# Altium footprint library RPSLib_Diodes.PcbLib: 12 footprints
Each footprint in its own frame and in the unit in brackets; x right, y up, seen from the top. Pads: shape width x height; smd on the part's side, far side on the other; paste and mask are expansions set on the pad; w line width, h text height; cw(c..) or ccw(c..) is an arc to the next point about the centre after c.
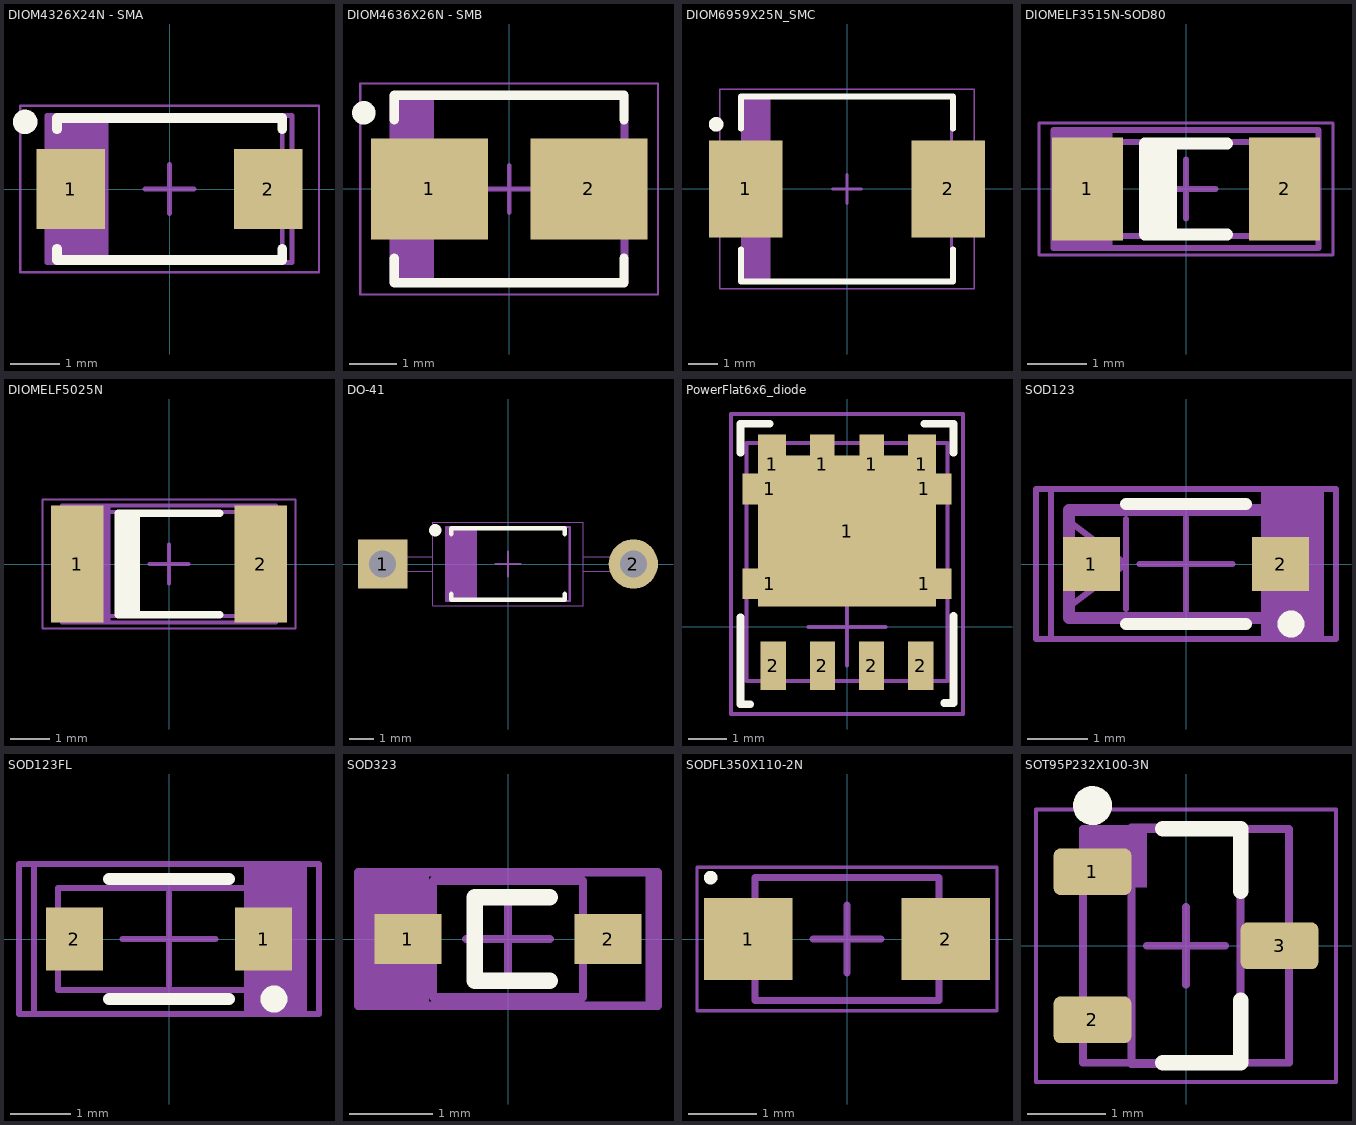
[diagram p0: the footprints below, top view; thin cyan lines are the x and y axes]

## DIOM4326X24N - SMA [mm] "Molded Diode, 2-Leads, Body 4,28x2,58mm, IPC Medium Density"
height 2.45
pads (2):
  rect 1.4x1.64 smd: 1(-2.015,0) 2(2.015,0)
Top Overlay:
  circle w0.25: c-2.95,1.37 r0.125
  lines w0.2: -2.3,-1.22 -2.3,-1.45 2.3,-1.45 2.3,-1.22 ; -2.3,1.22 -2.3,1.45 2.3,1.45 2.3,1.22
Mechanical 1:
  rectangle: -2.5,-1.5 -1.25,1.5
  lines w0.1: -2.5,-1.5 -2.5,1.5 2.5,1.5 2.5,-1.5 -2.5,-1.5
  text ".Designator" at -1.126,-0.113 h0.5
Mechanical 13:
  rectangle: -2.3,-1.45 -1.681,1.45
  lines w0.1: -2.3,-1.45 2.3,-1.45 2.3,1.45 -2.3,1.45 -2.3,-1.45
Mechanical 15:
  lines w0.05: -3.05,-1.7 3.05,-1.7 3.05,1.7 -3.05,1.7 -3.05,-1.7
  lines w0.1: -0.5,0 0.5,0 ; 0,-0.5 0,0.5
3D body "DIOM4326X24N - SMA.step": height 2.45, standoff 0, extent -2.52,-1.45 2.52,1.45

## DIOM4636X26N - SMB [mm] "Molded Diode, 2-Leads, Body 4,55x3,62mm, IPC Medium Density"
height 2.65
pads (2):
  rect 2.5x2.15 smd: 1(-1.7,0) 2(1.7,0)
Top Overlay:
  circle w0.25: c-3.1,1.625 r0.125
  lines w0.2: -2.45,-1.475 -2.45,-2 2.45,-2 2.45,-1.475 ; -2.45,1.475 -2.45,2 2.45,2 2.45,1.475
Mechanical 1:
  rectangle: -2.5,-2 -1.6,2
  lines w0.1: -2.5,-2 2.5,-2 2.5,2 -2.5,2 -2.5,-2
  text ".Designator" at -1.126,-0.113 h0.5
Mechanical 13:
  rectangle: -2.425,-1.97 -1.773,1.97
  lines w0.1: -2.425,-1.97 -2.425,1.97 2.425,1.97 2.425,-1.97 -2.425,-1.97
Mechanical 15:
  lines w0.05: -3.175,-2.25 -3.175,2.25 3.175,2.25 3.175,-2.25 -3.175,-2.25
  lines w0.1: -0.5,0 0.5,0 ; 0,-0.5 0,0.5
3D body "DIOM4636X26N-SMB.step": height 2.65, standoff 0, extent -2.645,-1.97 2.645,1.97

## DIOM6959X25N_SMC [mm] "Molded Diode, 2-Leads, Body 6,86x5,91mm, IPC Medium Density"
height 2.5
pads (2):
  rect 2.5x3.3 smd: 1(-3.45,0) 2(3.45,0)
Top Overlay:
  circle w0.25: c-4.45,2.2 r0.125
  lines w0.2: -3.6,-2.05 -3.6,-3.15 3.6,-3.15 3.6,-2.05 ; -3.6,2.05 -3.6,3.15 3.6,3.15 3.6,2.05
Mechanical 13:
  rectangle: -3.555,-3.11 -2.599,3.11
  lines w0.1: -3.555,-3.11 3.555,-3.11 3.555,3.11 -3.555,3.11 -3.555,-3.11
Mechanical 15:
  lines w0.05: -4.325,-3.4 4.325,-3.4 4.325,3.4 -4.325,3.4 -4.325,-3.4
  lines w0.1: -0.5,0 0.5,0 ; 0,-0.5 0,0.5
3D body "DIOM6959X25N_SMC.step": height 2.5, standoff 0, extent -3.775,-3.11 3.775,3.11

## DIOMELF3515N-SOD80 [mm] "MELF Diode, 2-Leads, Body 3,50x1,50mm, IPC Medium Density"
height 1.6
pads (2):
  rect 1.2x1.75 smd: 1(-1.675,0) 2(1.675,0)
Top Overlay:
  rectangle: -0.7,-0.775 -0.15,0.775
  lines w0.2: 0.7,-0.775 -0.7,-0.775 -0.7,0.775 0.7,0.775
Mechanical 1:
  rectangle: -2.25,-1 -1.25,1
  lines w0.1: -2.25,-1 2.25,-1 2.25,1 -2.25,1 -2.25,-1
  text ".Designator" at -1.126,-0.113 h0.5
Mechanical 13:
  lines w0.1: -1.85,-0.8 1.85,-0.8 1.85,0.8 -1.85,0.8 -1.85,-0.8
Mechanical 15:
  lines w0.05: -2.5,-1.125 2.5,-1.125 2.5,1.125 -2.5,1.125 -2.5,-1.125
  lines w0.1: -0.5,0 0.5,0 ; 0,-0.5 0,0.5
3D body "SOD-80 MiniMELF.stp": height 1.6, standoff 0, extent -1.85,-0.8 1.85,0.8

## DIOMELF5025N [mm]
pads (2):
  rect 1.35x3 smd: 1(-2.35,0) 2(2.35,0)
Top Overlay:
  rectangle: -1.3,-1.3 -0.75,1.3
  lines w0.2: 1.3,-1.3 -1.3,-1.3 -1.3,1.3 1.3,1.3
Mechanical 1:
  rectangle: -2.75,-1.5 -1.5,1.5
  lines w0.1: -2.75,-1.5 -2.75,1.5 2.75,1.5 2.75,-1.5 -2.75,-1.5
  text ".Designator" at -1.126,-0.113 h0.5
Top Component Outline:
  lines w0.05: -3.25,-1.65 3.25,-1.65 3.25,1.65 -3.25,1.65 -3.25,-1.65
  lines w0.1: -0.5,0 0.5,0 ; 0,-0.5 0,0.5
Mechanical 13:
  lines w0.1: -2.6,-1.335 2.6,-1.335 2.6,1.335 -2.6,1.335 -2.6,-1.335
3D body "DIOMELF5025N.step": height 2.54, standoff 0, extent -2.475,-1.261 2.475,1.261

## DO-41 [mm] "Molded Diode, 2-Leads,  Throug hple"
height 2.45
pads (2):
  rect 2x2 hole 1.1: 1(-5.08,0)
  round 2 hole 1.1: 2(5.08,0)
Top Overlay:
  circle w0.25: c-2.95,1.37 r0.125
  lines w0.2: -2.3,-1.22 -2.3,-1.45 2.3,-1.45 2.3,-1.22 ; -2.3,1.22 -2.3,1.45 2.3,1.45 2.3,1.22
Mechanical 1:
  rectangle: -2.5,-1.5 -1.25,1.5
  lines w0.1: -2.5,-1.5 -2.5,1.5 2.5,1.5 2.5,-1.5 -2.5,-1.5
  text ".Designator" at -1.126,-0.113 h0.5
Mechanical 13:
  rectangle: -2.5,-1.5 -1.881,1.5
  lines w0.1: -2.5,-1.5 2.5,-1.5 2.5,1.5 -2.5,1.5 -2.5,-1.5
Mechanical 15:
  lines w0.05: -5.1,-0.3 -3.05,-0.3 -3.05,0.3 -5.1,0.3 -5.1,-0.3 ; -3.05,-1.7 3.05,-1.7 3.05,1.7 -3.05,1.7 -3.05,-1.7 ; 3.05,-0.3 3.05,0.3 5.1,0.3 5.1,-0.3 3.05,-0.3
  lines w0.1: -0.5,0 0.5,0 ; 0,-0.5 0,0.5
3D body "User Library-DO-41-3.STEP": height 3.35, standoff -2, extent -5.51,-1.34 5.51,1.34

## PowerFlat6x6_diode [mm]
pads (13):
  rect 1.4x0.8 smd mask+0.07: 1(-2,1.115) 1(-2,3.565) 1(2,1.115) 1(2,3.565)
  rect 0.725x1.55 smd mask+0.07: 1(-1.937,4.2) 1(1.937,4.2)
  rect 0.625x1.55 smd mask+0.07: 1(-0.637,4.2) 1(0.637,4.2)
  rect 4.6x3.9 smd mask+0.07: 1(0,2.475)
  rect 0.65x1.25 smd mask+0.07: 2(-1.905,-1) 2(-0.635,-1) 2(0.635,-1) 2(1.905,-1)
Top Overlay:
  lines w0.2: -2.75,0.25 -2.75,-2 -2.5,-2 ; -2.75,4.5 -2.75,5.25 -2,5.25 ; 2,5.25 2.75,5.25 2.75,4.5 ; 2.512,-1.968 2.75,-1.968 2.75,0.282
Mechanical 13:
  lines w0.1: -2.6,-1.4 -2.6,4.75 2.6,4.75 2.6,-1.4 -2.6,-1.4
Mechanical 15:
  lines w0.1: -1,0 1,0 ; 0,-1 0,1 ; -3,-2.25 3,-2.25 3,5.5 -3,5.5 -3,-2.25
3D body "User Library-Power_Flat_5x6.step": height 0.95, standoff -0.04, extent -2.6,-1.4 2.6,4.75

## SOD123 [mm]
pads (2):
  rect 0.95x0.9 smd mask+0.075: 1(-1.575,0) 2(1.575,0)
Top Overlay:
  circle w0.25: c1.75,-1 r0.1
  lines w0.2: -1,-1 1,-1 ; -1,1 1,1
Mechanical 1:
  rectangle: 1.25,-1.25 2.25,1.25
  lines w0.1: -1,-0.75 -1,0.75 ; -2.25,-1.25 -2.25,1.25 2.25,1.25 2.25,-1.25 -2.25,-1.25 ; -2,-0.75 -2,0.75 -1,0 -2,-0.75
  text ".Designator" at -0.876,-0.113 h0.5
Mechanical 13:
  lines w0.2: -1.95,-0.9 1.95,-0.9 1.95,0.9 -1.95,0.9 -1.95,-0.9
Mechanical 15:
  lines w0.1: -0.775,0 0.775,0 ; 0,-0.775 0,0.775 ; -2.5,-1.25 2.5,-1.25 2.5,1.25 -2.5,1.25 -2.5,-1.25
3D body "User Library-SOD123-1.step": height 1.18, standoff 0, extent -1.95,-0.9 1.95,0.9

## SOD123FL [mm]
height 1.35
pads (2):
  rect 0.95x1.05 smd: 1(1.575,0) 2(-1.575,0)
Top Overlay:
  circle w0.25: c1.75,-1 r0.1
  lines w0.2: -1,-1 1,-1 ; -1,1 1,1
Mechanical 1:
  rectangle: 1.25,-1.25 2.25,1.25
  lines w0.1: -2.25,-1.25 -2.25,1.25 2.25,1.25 2.25,-1.25 -2.25,-1.25
  text ".Designator" at -0.826,-0.113 h0.5
Mechanical 13:
  lines w0.1: -1.85,-0.85 1.9,-0.85 1.9,0.85 -1.85,0.85 -1.85,-0.85
Mechanical 15:
  lines w0.1: -0.775,0 0.775,0 ; 0,-0.775 0,0.775 ; -2.5,-1.25 2.5,-1.25 2.5,1.25 -2.5,1.25 -2.5,-1.25
3D body "User Library-SOD123F.step": height 1.2, standoff -0.01, extent -1.85,-0.85 1.9,0.85

## SOD323 [mm]
pads (2):
  rect 0.8x0.6 smd mask+0.07: 1(-1.2,0) 2(1.2,0)
Top Overlay:
  lines w0.2: 0.5,-0.5 -0.4,-0.5 -0.4,0.5 0.5,0.5
Mechanical 1:
  rectangle: -1.7,-0.8 -0.95,0.8
  lines w0.1: -1.7,-0.8 -1.7,0.8 1.7,0.8 1.7,-0.8 -1.7,-0.8
  text ".Designator" at -0.826,-0.113 h0.5
Mechanical 13:
  lines w0.1: -0.9,-0.7 -0.9,0.7 0.9,0.7 0.9,-0.7 -0.9,-0.7
Mechanical 15:
  lines w0.1: -0.5,0 0.5,0 ; 0,-0.5 0,0.5 ; -1.8,-0.8 -1.8,0.8 1.8,0.8 1.8,-0.8 -1.8,-0.8
3D body "User Library-SOD323-1.step": height 1.1, standoff 0, extent -1.3,-0.675 1.3,0.675

## SODFL350X110-2N [mm] "SODFL, 2-Leads, Body 1,65x3,50mm, IPC Medium Density"
height 1.1
pads (2):
  rect 1.3x1.2 smd paste-0.05 mask+0.075: 1(-1.45,0) 2(1.45,0)
Top Overlay:
  circle w0.1: c-2,0.9 r0.05
Mechanical 13:
  lines w0.1: -1.35,-0.9 1.35,-0.9 1.35,0.9 -1.35,0.9 -1.35,-0.9
Mechanical 15:
  lines w0.05: -2.2,-1.05 2.2,-1.05 2.2,1.05 -2.2,1.05 -2.2,-1.05
  lines w0.1: -0.5,0 0.5,0 ; 0,-0.5 0,0.5
3D body "User Library-SOD123F.step": height 1.2, standoff -0.01, extent -1.9,-0.85 1.85,0.85

## SOT95P232X100-3N [mm] "SOT23, 3-Leads, Body 2.92x2.32mm, Pitch 0.95mm, IPC Medium Density"
height 1
pads (3):
  rrect30% 1x0.6 smd paste-0.03: 1(-1.2,0.95) 2(-1.2,-0.95) 3(1.2,0)
Top Overlay:
  circle w0.25: c-1.2,1.8 r0.125
  lines w0.2: -0.3,-1.5 0.7,-1.5 0.7,-0.7 ; -0.3,1.5 0.7,1.5 0.7,0.7
Mechanical 1:
  rectangle: -1.32,0.75 -0.5,1.5
  lines w0.1: -1.32,-1.5 1.32,-1.5 1.32,1.5 -1.32,1.5 -1.32,-1.5
  text ".Designator" at -0.113,1.126 h0.5
Mechanical 13:
  lines w0.1: -0.7,-1.52 -0.7,1.52 0.7,1.52 0.7,-1.52 -0.7,-1.52
Mechanical 15:
  lines w0.05: -1.925,-1.75 -1.925,1.75 1.925,1.75 1.925,-1.75 -1.925,-1.75
  lines w0.1: -0.5,0 0.5,0 ; 0,-0.5 0,0.5
3D body "SOT95P232X100-3N.step": height 1, standoff 0, extent -1.32,-1.52 1.32,1.52